# EAGLE library part AD734* (library AD734)
10 MHz, 4-Quadrant Multiplier/Divider FEATURES High Accuracy 0.1% Typical Error High Speed 10 MHz Full-Power Bandwidth 450 V/µs Slew Rate 200 ns Settling to 0.1% at Full Power Low Distortion -80 dBc from Any Input Third-Order IMD Typically -75 dBc at 10 MHz Low Noise 94 dB SNR, 10 Hz to 20 kHz 70 dB SNR, 10 Hz to 10 MHz Direct Division Mode 2 MHz BW at Gain of 100 APPLICATIONS High Performance Replacement for AD534 Multiply, Divide, Square, Square Root Modulator, Demodulator Wideband Gain Control, RMS-DC Conversion Voltage-Controlled Amplifiers, Oscillators, and Filters Demodulator with 40 MHz Input Bandwidth The AD734 is an accurate high speed, four-quadrant analog multiplier that is pin-compatible with the industry-standard AD534 and provides the transfer function W=XY/U. The AD734 provides a low-impedance voltage output with a fullpower (20V pk-pk) bandwidth of 10MHz. Total static error (scaling, offsets, and nonlinearities combined) is 0.1% of full scale. Distortion is typically less than -80dBc and guaranteed. The low capacitance X, Y and Z inputs are fully differential. In most applications, no external components are required to define the function.
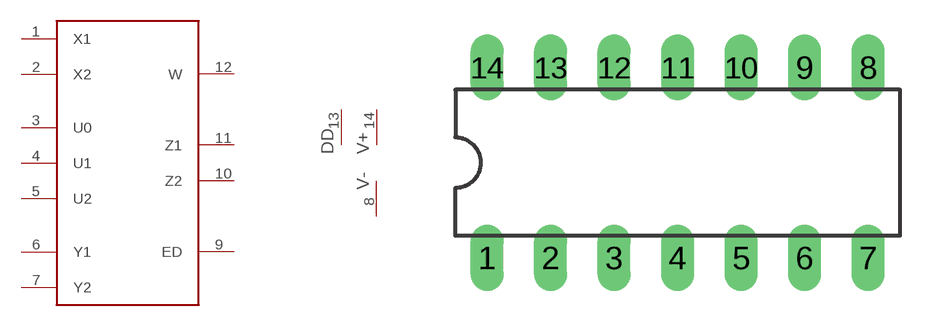
[diagram p0: symbol with the pads of DIL14; footprint DIL14]

Designator prefix MP; gates MP=AD734 PWR=AD734_PWR

## AD734AN, AD734BN  [DIL14]
1  MP:X1  in
2  MP:X2  in
3  MP:U0
4  MP:U1
5  MP:U2
6  MP:Y1  in
7  MP:Y2  in
8  PWR:V-  pwr
9  MP:ED  out
10  MP:Z2  in
11  MP:Z1  in
12  MP:W  out
13  PWR:DD  in
14  PWR:V+  pwr

## AD734AQ, AD734BQ  [DIL14]
Pads as for DIL14

## AD734SQ/833B  [DIL14]
Pads as for DIL14

## Footprint DIL14 (pad centres in mm)
Dual In Line Package
drill 0.813 long: 1 -7.62,-3.81; 2 -5.08,-3.81; 3 -2.54,-3.81; 4 0,-3.81; 5 2.54,-3.81; 6 5.08,-3.81; 7 7.62,-3.81; 8 7.62,3.81; 9 5.08,3.81; 10 2.54,3.81; 11 0,3.81; 12 -2.54,3.81; 13 -5.08,3.81; 14 -7.62,3.81